# Altium integrated library 我的元件库.IntLib: 8 symbols
Pins are listed as number, name and electrical type; pins without a type are passive.

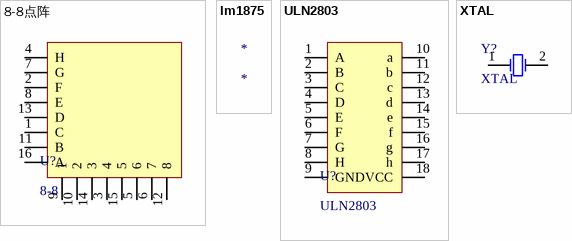
[diagram p0: symbols 8-8点阵 to XTAL]

## 8-8点阵
designator U?, comment 8-8
8-8: RAD
footprint 8-8LED点阵 - duplicate
pins: 1 C, 2 F, 3 4, 4 H, 5 6, 6 7, 7 G, 8 E, 9 1, 10 2, 11 B, 12 8, 13 D, 14 3, 15 5, 16 A

## lm1875
designator *

## ULN2803
designator U?
ULN2803: ULN2803
footprint DIP-18
pins: 1 A, 2 B, 3 C, 4 D, 5 E, 6 F, 7 G, 8 H, 9 GND, 10 a, 11 b, 12 c, 13 d, 14 e, 15 f, 16 g, 17 h, 18 VCC

## XTAL
designator Y?
XTAL: 12MHZ
footprint XTAL
pins: 1, 2


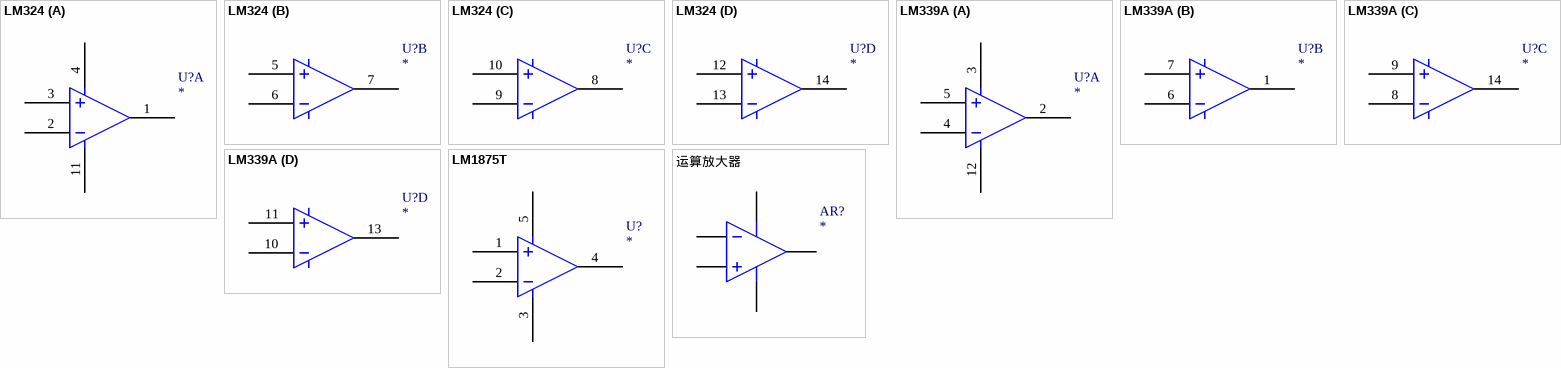
[diagram p1: symbols LM324 to 运算放大器]

## LM324
designator U?
footprint DIP-14
part A pins: 1, 2, 3, 4, 11
part B pins: 5, 6, 7
part C pins: 8, 9, 10
part D pins: 12, 13, 14

## LM339A
designator U?
footprint DIP-14
part A pins: 2, 3, 4, 5, 12
part B pins: 1, 6, 7
part C pins: 8, 9, 14
part D pins: 10, 11, 13

## LM1875T
designator U?
footprint TO-220
footprint TO-220-5
pins: 1, 2, 3, 4, 5

## 运算放大器
designator AR?
Operational Amplifier; U?: *
footprint DIP-8N
pins: 1 OUT, 2 IN-, 3 IN+, 4 V-, 8 V+